# Altium schematic symbol library hole symbol.SchLib: 1 symbol
Pins are listed as number, name and electrical type; pins without a type are passive.

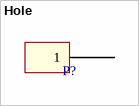
[diagram p0: symbol Hole]

## Hole
designator P?  (value not drawn)
footprint 24-gauge wire hole
footprint 4-40 Screw Mount
footprint 2-56 Screw Mount
pins: 1